# Altium footprint library TPS53319DQPR.PcbLib: 1 footprints
Each footprint in its own frame and in the unit in brackets; x right, y up, seen from the top. Pads: shape width x height; smd on the part's side, far side on the other; paste and mask are expansions set on the pad; w line width, h text height; cw(c..) or ccw(c..) is an arc to the next point about the centre after c.
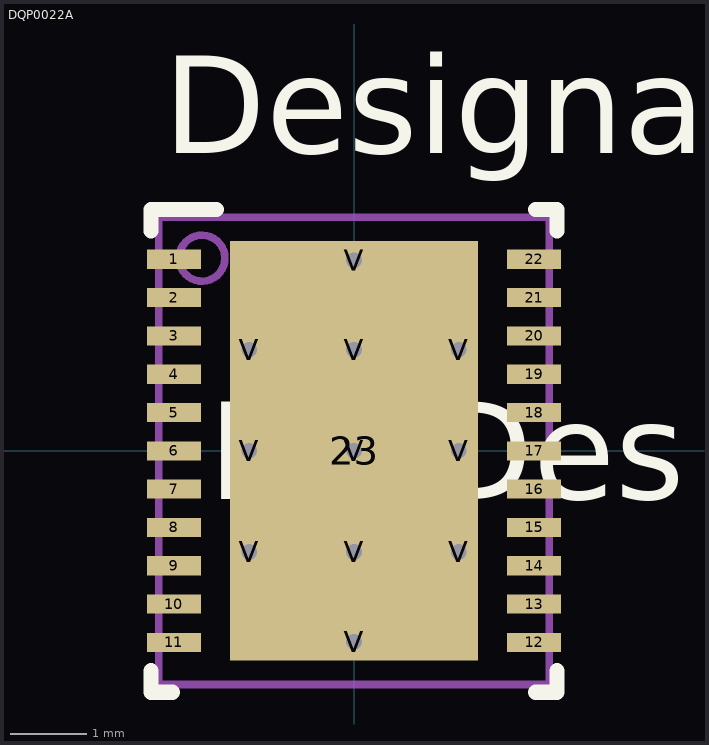
[diagram p0: the footprint, top view; thin cyan lines are the x and y axes]

## DQP0022A [mm]
pads (34):
  rect 0.7x0.25 smd paste+0 mask+0.051: 1(-2.35,2.5) 2(-2.35,2) 3(-2.35,1.5) 4(-2.35,1) 5(-2.35,0.5) 6(-2.35,0) 7(-2.35,-0.5) 8(-2.35,-1) 9(-2.35,-1.5) 10(-2.35,-2) 11(-2.35,-2.5) 12(2.35,-2.5) 13(2.35,-2) 14(2.35,-1.5) 15(2.35,-1) 16(2.35,-0.5) 17(2.35,0) 18(2.35,0.5) 19(2.35,1) 20(2.35,1.5) 21(2.35,2) 22(2.35,2.5)
  rect 3.24x5.479 smd paste-2.727 mask+0.051: 23(0,0)
  round 0.5 / inner round 1.524 / far side round 0.5 hole 0.203 paste-0.25 mask+0.051: V(-1.37,-1.32) V(-1.37,0) V(-1.37,1.32) V(0,-2.489) V(0,-1.32) V(0,0) V(0,1.32) V(0,2.489) V(1.37,-1.32) V(1.37,0) V(1.37,1.32)
Top Overlay:
  lines w0.2: -2.65,-2.87 -2.65,-3.15 -2.37,-3.15 ; -2.65,2.87 -2.65,3.15 -1.795,3.15 ; 2.37,-3.15 2.65,-3.15 2.65,-2.87 ; 2.37,3.15 2.65,3.15 2.65,2.87
  text "Designator156" at -2.489,3.886 h1.27
  text "RefDes" at -1.905,-0.635 h1.27
Top Paste:
  region: 0.105,-1.42 0.105,-2.54 1.515,-2.54 1.515,-1.42
  region: -1.515,-1.42 -1.515,-2.54 -0.105,-2.54 -0.105,-1.42
  region: 0.105,-0.1 0.105,-1.22 1.515,-1.22 1.515,-0.1
  region: -1.515,-0.1 -1.515,-1.22 -0.105,-1.22 -0.105,-0.1
  region: 0.105,1.22 0.105,0.1 1.515,0.1 1.515,1.22
  region: -1.515,1.22 -1.515,0.1 -0.105,0.1 -0.105,1.22
  region: -1.515,2.54 -1.515,1.42 -0.105,1.42 -0.105,2.54
  region: 0.105,2.54 0.105,1.42 1.515,1.42 1.515,2.54
Mechanical 13:
  circle w0.1: c-1.985,2.515 r0.3
  lines w0.1: -2.55,-3.05 -2.55,3.05 2.55,3.05 2.55,-3.05 -2.55,-3.05